# Altium footprint library HJ WL-433 PCB库PcbLib.PcbLib: 2 footprints
Each footprint in its own frame and in the unit in brackets; x right, y up, seen from the top. Pads: shape width x height; smd on the part's side, far side on the other; paste and mask are expansions set on the pad; w line width, h text height; cw(c..) or ccw(c..) is an arc to the next point about the centre after c.
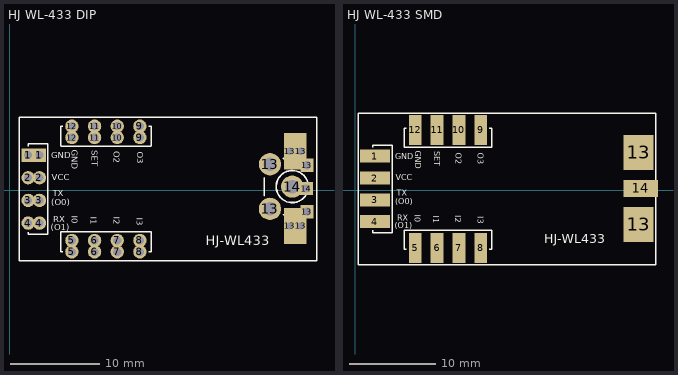
[diagram p0: the footprints below, top view; thin cyan lines are the x and y axes]

## HJ WL-433 DIP [mm]
pads (34):
  rect 1.5x1.5 hole 0.9: 1(2.042,3.956) 1(3.312,3.956) 13(33.302,-2.384) 13(33.302,2.816) 14(33.202,0.206)
  round 1.5 hole 0.9: 2(2.042,1.416) 2(3.312,1.416) 3(2.042,-1.124) 3(3.312,-1.124) 4(2.042,-3.664) 4(3.312,-3.664) 5(6.952,-6.884) 5(6.952,-5.614) 6(9.492,-6.884) 6(9.492,-5.614) 7(12.032,-6.884) 7(12.032,-5.614) 8(14.572,-6.884) 8(14.572,-5.614) 9(14.572,5.926) 9(14.572,7.196) 10(12.032,5.926) 10(12.032,7.196) 11(9.492,5.926) 11(9.492,7.196) 12(6.952,5.926) 12(6.952,7.196)
  round 2.5 hole 1.5: 13(29.152,-2.074) 13(29.152,2.926) 14(31.652,0.426)
  rect 1.27x4.064 hole 0.813: 13(31.347,-3.99) 13(31.347,4.392) 13(32.617,-3.99) 13(32.617,4.392)
Top Overlay:
  circle w0.2: c31.652,0.426 r1.8
  lines w0.15: 2.042,-4.68 2.042,-4.934 4.262,-4.934 4.262,5.226 2.042,5.226 2.042,4.972 ; 5.682,4.976 5.682,7.196 5.936,7.196 ; 5.684,4.972 15.844,4.972 ; 5.936,-6.884 5.682,-6.884 5.682,-4.664 15.842,-4.664 15.842,-6.884 15.588,-6.884 ; 15.588,7.196 15.842,7.196 15.842,4.976 ; 1.02,-7.9 1.02,8.21 34.42,8.21 34.42,-7.9 1.02,-7.9
  lines w0.2: 28.502,-0.574 28.502,1.426 ; 30.652,-2.724 32.652,-2.724 ; 30.652,3.576 32.652,3.576
  text "HJ-WL433" at 21.962,-6.524 h1.8
  text "RX" at 4.84,-3.55 h0.7
  text "(O1)" at 4.56,-4.46 h0.7
  text "TX" at 4.78,-0.68 h0.7
  text "(O0)" at 4.64,-1.65 h0.7
  text "VCC" at 4.69,1.15 h0.7
  text "GND" at 4.66,3.62 h0.7
  text "I0" at 6.91,-2.86 h0.7
  text "I1" at 9.07,-2.96 h0.7
  text "I2" at 11.62,-2.95 h0.7
  text "I3" at 14.21,-3.04 h0.7
  text "O3" at 14.25,4.34 h0.7
  text "O2" at 11.66,4.37 h0.7
  text "SET" at 9.2,4.52 h0.7
  text "GND" at 6.94,4.56 h0.7
Mechanical 1:
  circle w0.025: c31.652,0.426 r1.8
  circle w0.025: c31.652,0.426 r1.05
  circle w0.025: c31.652,0.426 r0.2

## HJ WL-433 SMD [mm]
pads (15):
  rect 3.5x1.5 smd: 1(2.258,3.948) 2(2.258,1.408) 3(2.258,-1.132) 4(2.258,-3.672)
  rect 1.5x3.5 smd: 5(6.957,-6.72) 6(9.497,-6.72) 7(12.037,-6.72) 8(14.577,-6.72) 9(14.577,6.996) 10(12.037,6.996) 11(9.497,6.996) 12(6.957,6.996)
  rect 3.5x4.064 smd: 13(32.947,-3.99) 13(32.947,4.392)
  rect 4x2 smd: 14(33.202,0.206)
Top Overlay:
  lines w0.15: 2.042,-4.68 2.042,-4.934 4.262,-4.934 4.262,5.226 2.042,5.226 2.042,4.972 ; 5.682,4.976 5.682,7.196 5.936,7.196 ; 5.684,4.972 15.844,4.972 ; 5.936,-6.884 5.682,-6.884 5.682,-4.664 15.842,-4.664 15.842,-6.884 15.588,-6.884 ; 15.588,7.196 15.842,7.196 15.842,4.976 ; 0.3,-8.68 0.3,8.94 34.92,8.94 34.92,-8.68 0.3,-8.68
  text "HJ-WL433" at 21.962,-6.524 h1.8
  text "RX" at 4.84,-3.55 h0.7
  text "(O1)" at 4.56,-4.46 h0.7
  text "TX" at 4.78,-0.68 h0.7
  text "(O0)" at 4.64,-1.65 h0.7
  text "VCC" at 4.69,1.15 h0.7
  text "GND" at 4.66,3.62 h0.7
  text "I0" at 6.91,-2.86 h0.7
  text "I1" at 9.07,-2.96 h0.7
  text "I2" at 11.62,-2.95 h0.7
  text "I3" at 14.21,-3.04 h0.7
  text "O3" at 14.25,4.34 h0.7
  text "O2" at 11.66,4.37 h0.7
  text "SET" at 9.2,4.52 h0.7
  text "GND" at 6.94,4.56 h0.7